# Altium schematic symbol library Midas.SchLib: 6 symbols
Pins are listed as number, name and electrical type; pins without a type are passive.

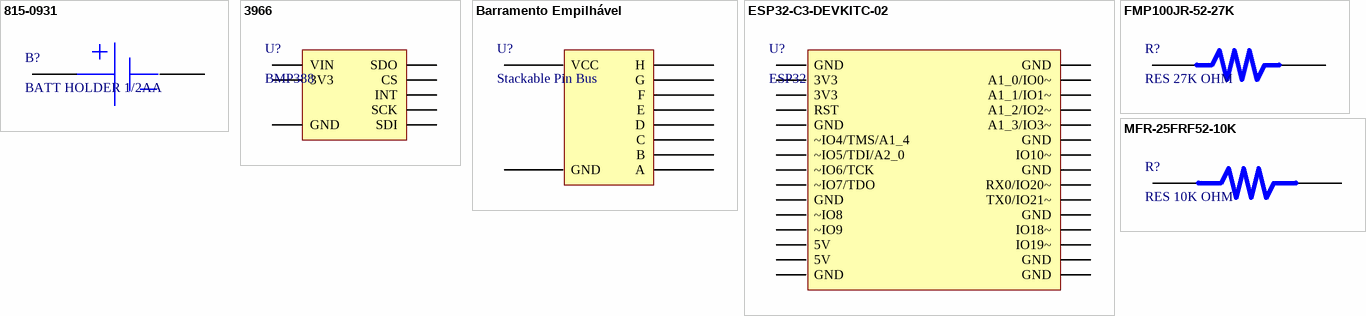
[diagram p0: symbols 815-0931 to MFR-25FRF52-10K]

## 815-0931
designator B?, comment BATT HOLDER 1/2AA
HOLDER 1/2AA BATTERY W/O COVER; Manufacturer: Memory Protection Devices; Manufacturer Part Number: 815-0931; Supplier: Digikey; Supplier Part Number: 815-0931-ND; RoHS: Yes; Category: Uncategorized; Stock: 10403; Pricing: 1=1,32, 10=1,116, 50=0,9816, 100=0,9251, 250=0,85124, 500=0,79912, 1000=0,747, 2500=0,67751, 5000=0,62539 (USD); ComponentLink1URL: https://datasheet.ciiva.com/4/815-0931-datasheet-4327.pdf?src-supplier=Digikey; ComponentLink1Description: https://datasheet.ciiva.com/4/815-0931-datasheet-4327.pdf?src-supplier=Digikey
footprint 815-0931
pins: 1 +, 2 -

## 3966
designator U?, comment BMP388
Test Lead, Blk, Red, 139.7MM, 500V 3V ~ 5V / Adafruit Industries LLC / BMP388 - Pressure Sensor Evaluation Board / BMP388; Manufacturer Part Number: 3966; Supplier: Digikey; Supplier Part Number: 1528-2733-ND; Manufacturer: Adafruit Industries; RoHS: No; Category: Pressure Sensors; Stock: 21; Pricing: 1=9,95 (USD)
footprint 3966
pins: 1 VIN, 2 3V3, 3 GND, 4 SCK, 5 SDO, 6 SDI, 7 CS, 8 INT

## Barramento Empilhável
designator U?, comment Stackable Pin Bus
10 pinos, Passo 2.54mm, Dimensões da barra 26x2x8mm
footprint STACKABLE_PIN_BUS
pins: 1 VCC, 2 GND, 3 A, 4 B, 5 C, 6 D, 7 E, 8 F, 9 G, 10 H

## ESP32-C3-DEVKITC-02
designator U?, comment ESP32
Manufacturer: Espressif Systems; Manufacturer Part Number: ESP32-C3-DEVKITC-02; Supplier: Digikey; Supplier Part Number: 1965-ESP32-C3-DEVKITC-02-ND; RoHS: No; Category: RF Semiconductors and Devices; Stock: 1074; Pricing: 1=8 (USD)
footprint ESP32
footprint ESP32
pins: 1 GND, 2 3V3, 3 3V3, 4 RST, 5 GND, 6 ~IO4/TMS/A1_4, 7 ~IO5/TDI/A2_0, 8 ~IO6/TCK, 9 ~IO7/TDO, 10 GND, 11 ~IO8, 12 ~IO9, 13 5V, 14 5V, 15 GND, 16 GND, 17 GND, 18 IO19~, 19 IO18~, 20 GND, 21 TX0/IO21~, 22 RX0/IO20~, 23 GND, 24 IO10~, 25 GND, 26 A1_3/IO3~, 27 A1_2/IO2~, 28 A1_1/IO1~, 29 A1_0/IO0~, 30 GND

## FMP100JR-52-27K
designator R?, comment RES 27K OHM
Fixed Resistor, Metal Film, 1W, 27000ohm, 350V, 5% +/-Tol; Manufacturer: Yageo; Manufacturer Part Number: FMP100JR-52-27K; Manufacturer Series: FMP; Value: 27kR; Lead Diameter: 0.55mm; Lead Length: 28mm; Package Diameter: 2.4mm; Package Length: 6.3mm; Supplier: Digikey; Supplier Part Number: 27KWCT-ND; RoHS: Yes; Category: Through-Hole Resistors; Stock: 32661; Pricing: 1=0,2, 10=0,164, 25=0,126, 50=0,0912, 100=0,0642, 250=0,05192, 500=0,04092, 1000=0,02832 (USD); Pins: 2; Package Shape: Cylindrical; Terminal Finish: Tin; Min Operating Temperature: -55°C; Max Operating Temperature: 155°C; Tolerance: 5%; JESD-609 Code: e3; Resistor Type: FIXED RESISTOR; Construction: Cylindrical; Package Style: AxialMeter; Packaging: Tape and Reel; Power: 1W; Series: FMP; Technology: METAL FILM; Working Voltage: 350V; Reach SVHC Compliant: Yes; RoHS Compliant: Yes; ComponentLink1URL: https://datasheet.ciiva.com/2710/yageolr-fmp-2013-2710623.pdf?src-supplier=Digikey; ComponentLink1Description: https://datasheet.ciiva.com/2710/yageolr-fmp-2013-2710623.pdf?src-supplier=Digikey; ComponentLink2URL: https://datasheet.ciiva.com/2710/yageolr-fmp-2013-2710624.pdf?src-supplier=Digikey; ComponentLink2Description: https://datasheet.ciiva.com/2710/yageolr-fmp-2013-2710624.pdf?src-supplier=Digikey
footprint FMP100JR-52-27K
pins: 1, 2

## MFR-25FRF52-10K
designator R?, comment RES 10K OHM
Fixed Resistor, Metal Film, 0.25W, 10000ohm, 250V, 1% +/-Tol, 100ppm/Cel, Through Hole Mount; Manufacturer: Yageo; Manufacturer Part Number: MFR-25FRF52-10K; Power: 250mW; Rated Temperature: 70°C; Value: 10kR; Temperature Coefficient: 100ppm/°C; Lead Diameter: 0.55mm; Lead Length: 28mm; Package Diameter: 2.4mm; Package Length: 6.3mm; Supplier: Digikey; Supplier Part Number: 13-MFR-25FRF52-10KCT-ND; RoHS: Yes; Category: Through-Hole Resistors; Stock: 169602; Pricing: 1=0,1, 10=0,077, 25=0,056, 50=0,0436, 100=0,0296, 250=0,02428, 500=0,01928, 1000=0,01369 (USD); Mounting Technology: Through Hole; Pins: 2; Package Shape: Tubular; Terminal Finish: Tin; Min Operating Temperature: -55°C; Max Operating Temperature: 155°C; Tolerance: 1%; JESD-609 Code: e3; Resistor Type: FIXED RESISTOR; Construction: Cylindrical; Package Style: AxialMeter; Packaging: Tape and Reel; Technology: METAL FILM; Termination: Wire; Working Voltage: 250V; Reach SVHC Compliant: Yes; RoHS Compliant: Yes; ComponentLink1URL: https://datasheet.ciiva.com:443/pdfs/VipMasterIC/IC/YAGO/YAGO-S-A0009358480/YAGO-S-A0009358480-1.pdf?src-supplier=IHS+Markit; ComponentLink1Description: https://datasheet.ciiva.com:443/pdfs/VipMasterIC/IC/YAGO/YAGO-S-A0009358480/YAGO-S-A0009358480-1.pdf?src-supplier=IHS+Markit; ComponentLink2URL: https://datasheet.ciiva.com/25645/yageolr-mfr-2013-25645549.pdf?src-supplier=Digikey; ComponentLink2Description: https://datasheet.ciiva.com/25645/yageolr-mfr-2013-25645549.pdf?src-supplier=Digikey
footprint MFR-25FRF52-10K
pins: 1, 2